# Altium integrated library SS26FL.IntLib: 1 symbol
Pins are listed as number, name and electrical type; pins without a type are passive.

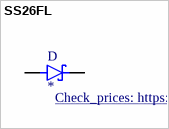
[diagram p0: symbol SS26FL]

## SS26FL
designator D
Diode Schottky 60V 2A Surface Mount SOD-123F; MF: ON Semiconductor; MP: SS26FL; Price: None; Value: *; SnapEDA_Link: https://www.snapeda.com/parts/SS26FL/ON%20Semiconductor/view-part/1406799/?ref=snap; Mouser-Purchase-URL: https://snapeda.com/shop?store=Mouser&id=1406799; Package: SOD-123 FL-2 ON Semiconductor; Arrow_Electronics-Purchase-URL: https://snapeda.com/shop?store=Arrow+Electronics&id=1406799; Availability: Good; DigiKey-Purchase-URL: https://snapeda.com/shop?store=DigiKey&id=1406799; Check_prices: https://www.snapeda.com/parts/SS26FL/ON%20Semiconductor/view-part/1406799/?ref=eda
footprint DIO_SS26FL
pins: 1 K, 2 A